# Altium footprint library INF-SOT343 (SC-82)_N.PcbLib: 1 footprints
Each footprint in its own frame and in the unit in brackets; x right, y up, seen from the top. Pads: shape width x height; smd on the part's side, far side on the other; paste and mask are expansions set on the pad; w line width, h text height; cw(c..) or ccw(c..) is an arc to the next point about the centre after c.
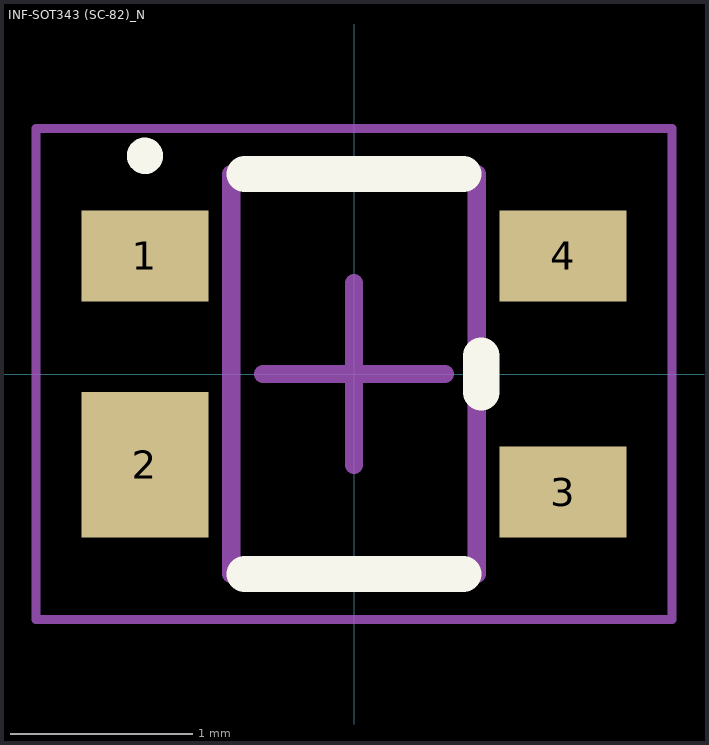
[diagram p0: the footprint, top view; thin cyan lines are the x and y axes]

## INF-SOT343 (SC-82)_N [mm] "SOT343, 4-Leads, Body 2x1.25mm, Pitch 1.3mm, IPC Medium Density"
height 1
pads (4):
  rect 0.7x0.5 smd: 1(-1.15,0.65) 3(1.15,-0.65) 4(1.15,0.65)
  rect 0.7x0.8 smd: 2(-1.15,-0.5)
Top Overlay:
  circle w0.1: c-1.15,1.2 r0.05
  lines w0.2: -0.6,-1.1 0.6,-1.1 ; -0.6,1.1 0.6,1.1 ; 0.7,-0.1 0.7,0.1
Mechanical 13:
  lines w0.1: -0.675,-1.1 -0.675,1.1 0.675,1.1 0.675,-1.1 -0.675,-1.1
Mechanical 15:
  lines w0.05: -1.75,-1.35 -1.75,1.35 1.75,1.35 1.75,-1.35 -1.75,-1.35
  lines w0.1: -0.5,0 0.5,0 ; 0,-0.5 0,0.5
3D body: height 1, standoff 0, extent -0.675,-1.1 0.675,1.1